# Altium schematic symbol library shottky.SchLib: 1 symbol
Pins are listed as number, name and electrical type; pins without a type are passive.

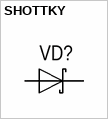
[diagram p0: symbol SHOTTKY]

## SHOTTKY
designator VD?
pins: 1, 2
2 alternate drawings of the same symbol